# Altium integrated library KorszeLib.IntLib: 11 symbols
Pins are listed as number, name and electrical type; pins without a type are passive.

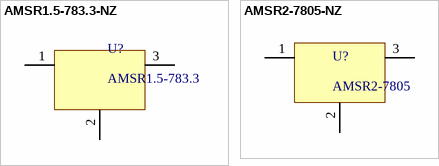
[diagram p0: symbols AMSR1.5-783.3-NZ to AMSR2-7805-NZ]

## AMSR1.5-783.3-NZ
designator U?, comment AMSR1.5-783.3
AMSR 12/3.3 DC/DC
pins: 1, 2, 3

## AMSR2-7805-NZ
designator U?, comment AMSR2-7805
AMSR 12/5 DC/DC
pins: 1, 2, 3


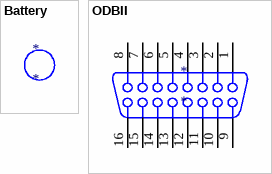
[diagram p1: symbols Battery to ODBII]

## Battery
designator *

## ODBII
designator *
pins: 1, 2, 3, 4, 5, 6, 7, 8, 9, 10, 11, 12, 13, 14, 15, 16


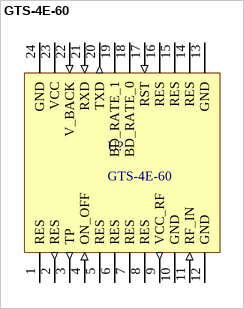
[diagram p2: symbol GTS-4E-60]

## GTS-4E-60
designator U?
FIBOCOM GTS-4E-60, GPS Module
pins: 1 RES, 2 RES (out), 3 TP (out), 4 ON_OFF (in), 5 RES, 6 RES, 7 RES, 8 RES, 9 VCC_RF (out), 10 GND (power), 11 RF_IN (in), 12 GND (power), 13 GND (power), 14 RES, 15 RES, 16 RES, 17 RST (in), 18 BD_RATE_0, 19 BD_RATE_1, 20 TXD (out), 21 RXD (in), 22 V_BACK (in), 23 VCC (power), 24 GND (power)


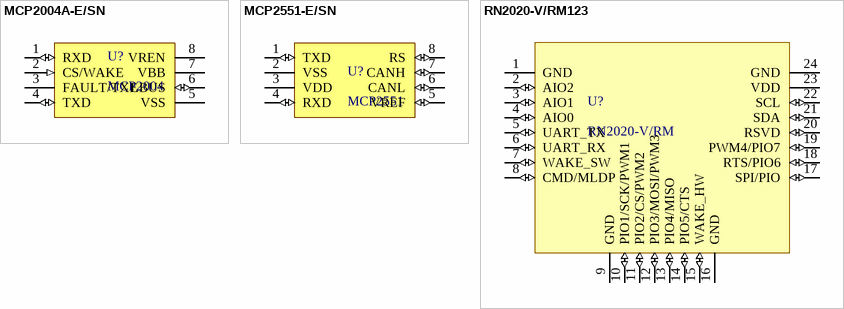
[diagram p3: symbols MCP2004A-E/SN to RN2020-V/RM123]

## MCP2004A-E/SN
designator U?, comment MCP2004
LIN Transceiver Michrochip Technology MCP2004A-E/SN
pins: 1 RXD (io), 2 CS/WAKE (in), 3 FAULT/TXE (power), 4 TXD (io), 5 VSS (power), 6 LBUS (io), 7 VBB (power), 8 VREN

## MCP2551-E/SN
designator U?, comment MCP2551
CAN Transceiver Michrochip Technology MCP2551-E/SN
pins: 1 TXD (io), 2 VSS (power), 3 VDD (power), 4 RXD (io), 5 VREF (io), 6 CANL (io), 7 CANH (io), 8 RS (io)

## RN2020-V/RM123
designator U?, comment RN2020-V/RM
Microchip RN4020 Bluetooth
pins: 1 GND (power), 2 AIO2 (io), 3 AIO1 (io), 4 AIO0 (io), 5 UART_TX (io), 6 UART_RX (io), 7 WAKE_SW (io), 8 CMD/MLDP (io), 9 GND (power), 10 PIO1/SCK/PWM1 (io), 11 PIO2/CS/PWM2 (io), 12 PIO3/MOSI/PWM3 (io), 13 PIO4/MISO (io), 14 PIO5/CTS (io), 15 WAKE_HW (io), 16 GND (power), 17 SPI/PIO (io), 18 RTS/PIO6 (io), 19 PWM4/PIO7 (io), 20 RSVD (io), 21 SDA (io), 22 SCL (io), 23 VDD (power), 24 GND (power)


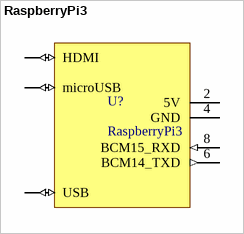
[diagram p4: symbol RaspberryPi3]

## RaspberryPi3
designator U?
pins: 2 5V (power), 4 GND (power), 6 BCM14_TXD (out), 8 BCM15_RXD (in), ?1 HDMI (io), ?2 microUSB (io), ?3 USB (io)


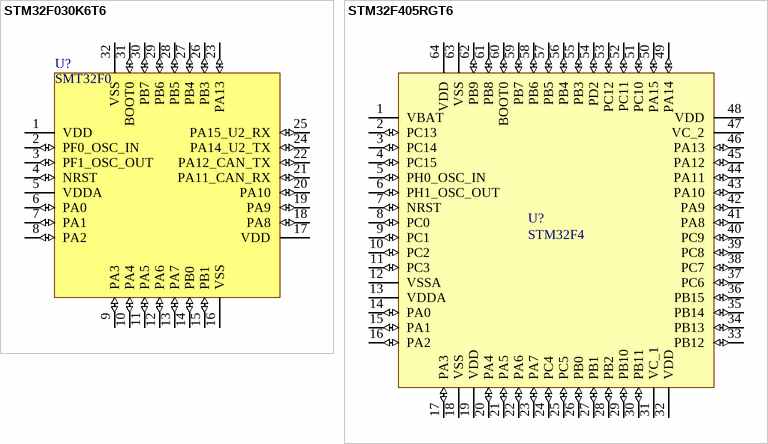
[diagram p5: symbols STM32F030K6T6 to STM32F405RGT6]

## STM32F030K6T6
designator U?, comment SMT32F0
STM32F030K6T6
footprint Model Name (Footprint not found)
pins: 1 VDD (power), 2 PF0_OSC_IN (io), 3 PF1_OSC_OUT (io), 4 NRST (io), 5 VDDA (power), 6 PA0 (io), 7 PA1 (io), 8 PA2 (io), 9 PA3 (io), 10 PA4 (io), 11 PA5 (io), 12 PA6 (io), 13 PA7 (io), 14 PB0 (io), 15 PB1 (io), 16 VSS (power), 17 VDD (power), 18 PA8 (io), 19 PA9 (io), 20 PA10 (io), 21 PA11_CAN_RX (io), 22 PA12_CAN_TX (io), 23 PA13 (io), 24 PA14_U2_TX (io), 25 PA15_U2_RX (io), 26 PB3 (io), 27 PB4 (io), 28 PB5 (io), 29 PB6 (io), 30 PB7 (io), 31 BOOT0 (io), 32 VSS (power)

## STM32F405RGT6
designator U?, comment STM32F4
STM32F405RGT6
footprint PQFP64_L (64-Pin Plastic Quad Flat Pack 0.8 mm Pitch, IPC High Density)
pins: 1 VBAT (power), 2 PC13 (io), 3 PC14 (io), 4 PC15 (io), 5 PH0_OSC_IN (io), 6 PH1_OSC_OUT (io), 7 NRST (io), 8 PC0 (io), 9 PC1 (io), 10 PC2 (io), 11 PC3 (io), 12 VSSA, 13 VDDA, 14 PA0 (io), 15 PA1 (io), 16 PA2 (io), 17 PA3 (io), 18 VSS (power), 19 VDD (power), 20 PA4 (io), 21 PA5 (io), 22 PA6 (io), 23 PA7 (io), 24 PC4 (io), 25 PC5 (io), 26 PB0 (io), 27 PB1 (io), 28 PB2 (io), 29 PB10 (io), 30 PB11 (io), 31 VC_1 (power), 32 VDD (power), 33 PB12 (io), 34 PB13 (io), 35 PB14 (io), 36 PB15 (io), 37 PC6 (io), 38 PC7 (io), 39 PC8 (io), 40 PC9 (io), 41 PA8 (io), 42 PA9 (io), 43 PA10 (io), 44 PA11 (io), 45 PA12 (io), 46 PA13 (io), 47 VC_2 (power), 48 VDD (power), 49 PA14 (io), 50 PA15 (io), 51 PC10 (io), 52 PC11 (io), 53 PC12 (io), 54 PD2 (io), 55 PB3 (io), 56 PB4 (io), 57 PB5 (io), 58 PB6 (io), 59 PB7 (io), 60 BOOT0 (io), 61 PB8 (io), 62 PB9 (io), 63 VSS (power), 64 VDD (power)